# EAGLE library part TA8221AH/AL (library Audio-Power-amlifier V.2.0)
30W BTLx2ch AUDIO POWER AMPLIEFIER
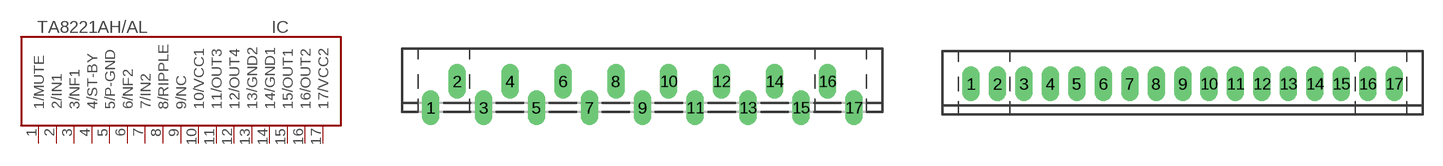
[diagram p163: symbol with the pads of HZIP17-P-2.00; footprints HZIP17-P-2.00, HSIP17-P-2.00]

Designator prefix IC

## TA8221AH/ALTA8221AH  [HZIP17-P-2.00]
1  1/MUTE  in
2  2/IN1  in
3  3/NF1  in
4  4/ST-BY  in
5  5/P-GND  pwr
6  6/NF2  in
7  7/IN2  in
8  8/RIPPLE
9  9/NC  nc
10  10/VCC1  pwr
11  11/OUT3  out
12  12/OUT4  out
13  13/GND2  pwr
14  14/GND1  pwr
15  15/OUT1  out
16  16/OUT2  out
17  17/VCC2  pwr

## TA8221AH/ALTA8221AL  [HSIP17-P-2.00]
Pads as for HZIP17-P-2.00

## Footprint HZIP17-P-2.00 (pad centres in mm)
HZIP17-P-2.00 Source: http://www.semicon.toshiba.co.jp/td/en/ASSP/Audio_ICs/en_20050517_TA8210ALQ_datasheet.pdf
drill 0.8 pad 1.2 long: 1 -16,-2; 2 -14,0; 3 -12,-2; 4 -10,0; 5 -8,-2; 6 -6,0; 7 -4,-2; 8 -2,0; 9 0,-2; 10 2,0; 11 4,-2; 12 6,0; 13 8,-2; 14 10,0; 15 12,-2; 16 14,0; 17 16,-2

## Footprint HSIP17-P-2.00 (pad centres in mm)
HSIP17-P-2.00 Source: http://www.semicon.toshiba.co.jp/td/en/ASSP/Audio_ICs/en_20050517_TA8210ALQ_datasheet.pdf
drill 0.8 pad 1.2 long: 1 -16,0; 2 -14,0; 3 -12,0; 4 -10,0; 5 -8,0; 6 -6,0; 7 -4,0; 8 -2,0; 9 0,0; 10 2,0; 11 4,0; 12 6,0; 13 8,0; 14 10,0; 15 12,0; 16 14,0; 17 16,0